# EAGLE library part GAL20V8 (library F030NG)
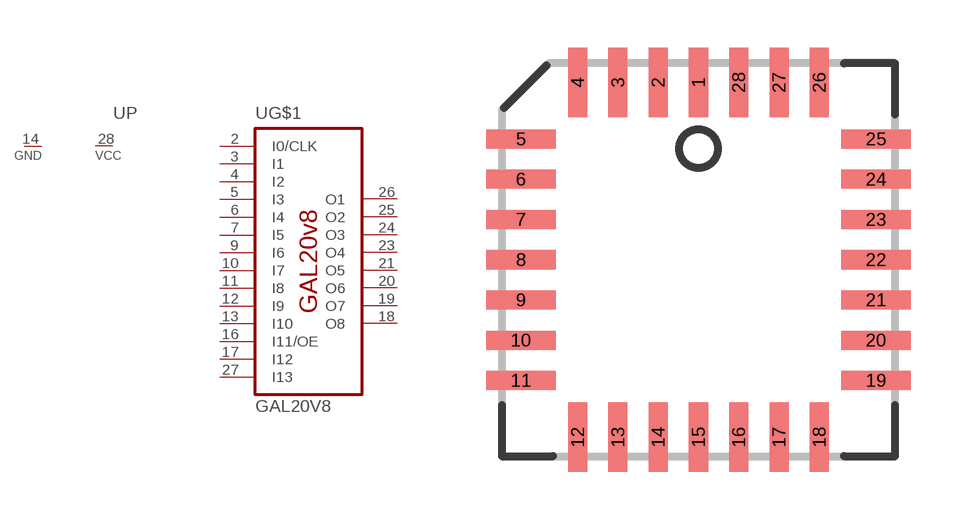
[diagram p36: symbol with the pads of PLCC28; footprint PLCC28]

Designator prefix U; gates G$1=GAL20V8 P=1VCC_1GND

## GAL20V8-PLCC  [PLCC28]
2  G$1:I0/CLK  in
3  G$1:I1  in
4  G$1:I2  in
5  G$1:I3  in
6  G$1:I4  in
7  G$1:I5  in
9  G$1:I6  in
10  G$1:I7  in
11  G$1:I8  in
12  G$1:I9  in
13  G$1:I10  in
14  P:GND  pwr
16  G$1:I11/OE  in
17  G$1:I12  in
18  G$1:O8
19  G$1:O7
20  G$1:O6
21  G$1:O5
23  G$1:O4
24  G$1:O3
25  G$1:O2
26  G$1:O1
27  G$1:I13  in
28  P:VCC  pwr

## Footprint PLCC28 (pad centres in mm)
smd 0.6 x 2.2: 1 0,5.6; 2 -1.27,5.6; 3 -2.54,5.6; 4 -3.81,5.6; 12 -3.81,-5.6; 13 -2.54,-5.6; 14 -1.27,-5.6; 15 0,-5.6; 16 1.27,-5.6; 17 2.54,-5.6; 18 3.81,-5.6; 26 3.81,5.6; 27 2.54,5.6; 28 1.27,5.6
smd 2.2 x 0.6: 5 -5.6,3.81; 6 -5.6,2.54; 7 -5.6,1.27; 8 -5.6,0; 9 -5.6,-1.27; 10 -5.6,-2.54; 11 -5.6,-3.81; 19 5.6,-3.81; 20 5.6,-2.54; 21 5.6,-1.27; 22 5.6,0; 23 5.6,1.27; 24 5.6,2.54; 25 5.6,3.81